# Altium footprint library AuxPDU.PcbLib: 21 footprints (part 2 of 2)
Each footprint in its own frame and in the unit in brackets; x right, y up, seen from the top. Pads: shape width x height; smd on the part's side, far side on the other; paste and mask are expansions set on the pad; w line width, h text height; cw(c..) or ccw(c..) is an arc to the next point about the centre after c.
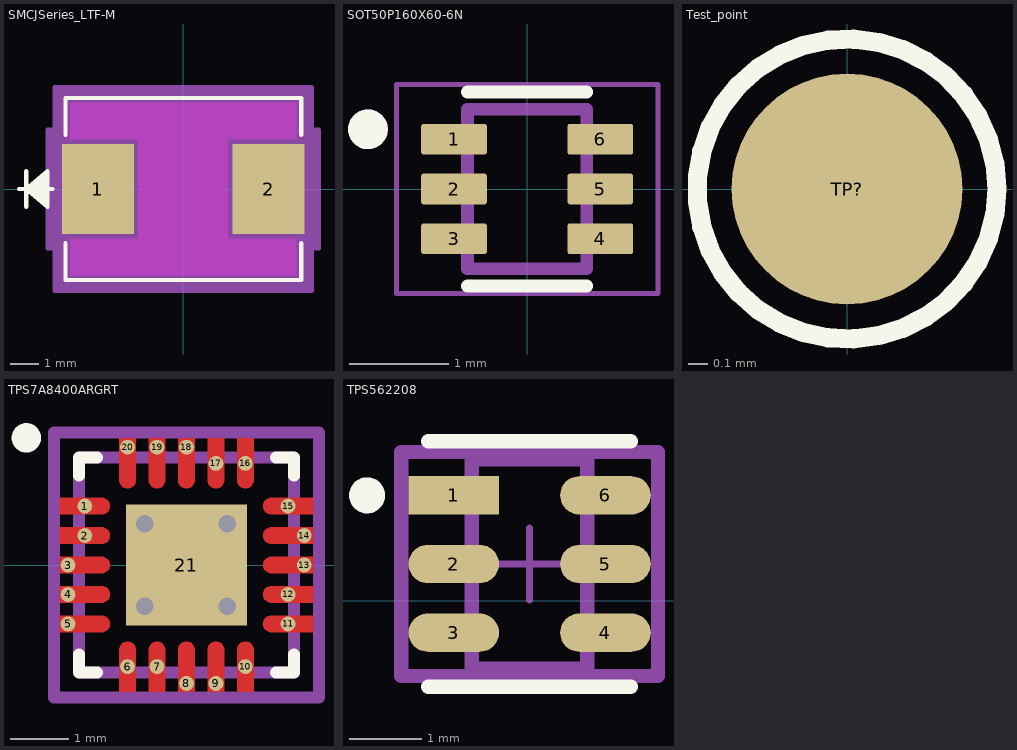
[diagram p1: the footprints below, top view; thin cyan lines are the x and y axes]

## SMCJSeries_LTF-M [mil]
pads (2):
  rect 101x126 smd paste+0 mask+0: 1(-119.5,0) 2(119.5,0)
Top Layer keep-out:
  region: -158,-120.5 -158,-69.88 158,-69.88 158,-120.5
  region: -158,69.88 -158,120.5 158,120.5 158,69.88
  region: -62.99,-69.88 -62.99,69.88 62.01,69.88 62.01,-69.88
Top Overlay:
  lines w6: -230,0 -183.1,0 ; -220,-25 -220,25 ; -190,-20 -220,0 ; -190,-15 -220,0 ; -190,-10 -220,0 ; -190,-5 -220,0 ; -190,5 -220,0 ; -190,10 -220,0 ; -190,15 -220,0 ; -190,20 -220,0 ; -165,-76.1 -165,-127.5 165,-127.5 165,-76.1 ; -165,76.1 -165,127.5 165,127.5 165,76.1 ; -220,0 -190,-25 -190,25 -220,0
  text ".Designator" at -176.5,156 h50
Keep-Out Layer:
  region: -62.99,-69.88 -62.99,69.88 62.01,69.88 62.01,-69.88
Top 3D Body:
  lines w1: -230,0 -180,0 ; -220,-25 -220,25 ; -190,-20 -220,0 ; -190,-15 -220,0 ; -190,-10 -220,0 ; -190,-5 -220,0 ; -190,5 -220,0 ; -190,10 -220,0 ; -190,15 -220,0 ; -190,20 -220,0 ; -220,0 -190,-25 -190,25 -220,0 ; -160,-122.5 -160,122.5 160,122.5 160,-122.5 -160,-122.5
  text ".Designator" at -176.5,156 h50
Top Courtyard:
  region: -180,-83 -190,-83 -190,83 -180,83 -180,142.5 180,142.5 180,83 190,83 190,-83 180,-83 180,-142.5 -180,-142.5
  lines w6: -190,-83 -180,-83 -180,-142.5 180,-142.5 180,-83 190,-83 190,83 180,83 180,142.5 -180,142.5 -180,83 -190,83 -190,-83
3D body "SMCJSeries_LTF.step": height 105, standoff 0, extent -160,-122.52 160,122.52

## SOT50P160X60-6N [mm]
height 0.6
pads (6):
  rrect16% 0.66x0.31 smd: 1(-0.735,0.5) 2(-0.735,0) 3(-0.735,-0.5) 4(0.735,-0.5) 5(0.735,0) 6(0.735,0.5)
Top Overlay:
  circle w0.2: c-1.6,0.6 r0.1
  lines w0.127: -0.6,-0.975 0.6,-0.975 ; -0.6,0.975 0.6,0.975
Top 3D Body:
  circle w0.2: c-1.6,0.6 r0.1
  lines w0.127: -0.6,-0.8 0.6,-0.8 0.6,0.8 -0.6,0.8 -0.6,-0.8
Top Courtyard:
  lines w0.05: -1.315,-1.05 1.315,-1.05 1.315,1.05 -1.315,1.05 -1.315,-1.05
3D body "step_temp.STEP": height 0.6, standoff 0, extent -0.8,-0.8 0.8,0.8

## Test_point [mm] "Reference point"
height 0.03
pads (1):
  round 1.2 smd paste-0.6: TP?(0,0)
Top Overlay:
  circle w0.1: c0,0 r0.78
3D body: height 0.03, standoff 0, extent -0.6,-0.6 0.6,0.6

## TPS7A8400ARGRT [mm] "Linear Voltage Regulator IC Positive Adjustable/Programmable 1 Output 3A"
pads (21):
  round 0.252 smd paste-1000 mask+0: 1(2.085,1) 2(2.085,0.5) 3(1.8,0) 4(1.8,-0.5) 5(1.8,-1) 6(2.81,-1.725) 7(3.31,-1.725) 8(3.81,-2.01) 9(4.31,-2.01) 10(4.81,-1.725) 11(5.535,-1) 12(5.535,-0.5) 13(5.81,0) 14(5.81,0.5) 15(5.535,1) 16(4.81,1.725) 17(4.31,1.725) 18(3.81,2) 19(3.31,2) 20(2.81,2)
  rect 2.05x2.05 smd paste-1000 mask+0: 21(3.81,0)
via 3.1,-0.7 diameter 0.6 hole 0.3
via 4.5,-0.7 diameter 0.6 hole 0.3
via 3.1,0.7 diameter 0.6 hole 0.3
via 4.5,0.7 diameter 0.6 hole 0.3
Top Layer:
  region: 1.66,1.14 2.37,1.14 2.398,1.14 2.449,1.119 2.489,1.079 2.51,1.028 2.51,1 2.51,0.972 2.489,0.921 2.449,0.881 2.398,0.86 2.37,0.86 1.66,0.86
  region: 1.66,0.64 2.37,0.64 2.398,0.64 2.449,0.619 2.489,0.579 2.51,0.528 2.51,0.5 2.51,0.472 2.489,0.421 2.449,0.381 2.398,0.36 2.37,0.36 1.66,0.36
  region: 1.66,0.14 2.37,0.14 2.398,0.14 2.449,0.119 2.489,0.079 2.51,0.028 2.51,0 2.51,-0.028 2.489,-0.079 2.449,-0.119 2.398,-0.14 2.37,-0.14 1.66,-0.14
  region: 1.66,-0.36 2.37,-0.36 2.398,-0.36 2.449,-0.381 2.489,-0.421 2.51,-0.472 2.51,-0.5 2.51,-0.528 2.489,-0.579 2.449,-0.619 2.398,-0.64 2.37,-0.64 1.66,-0.64
  region: 1.66,-0.86 2.37,-0.86 2.398,-0.86 2.449,-0.881 2.489,-0.921 2.51,-0.972 2.51,-1 2.51,-1.028 2.489,-1.079 2.449,-1.119 2.398,-1.14 2.37,-1.14 1.66,-1.14
  region: 2.67,-2.15 2.67,-1.44 2.67,-1.412 2.691,-1.361 2.731,-1.321 2.782,-1.3 2.81,-1.3 2.838,-1.3 2.889,-1.321 2.929,-1.361 2.95,-1.412 2.95,-1.44 2.95,-2.15
  region: 3.17,-2.15 3.17,-1.44 3.17,-1.412 3.191,-1.361 3.231,-1.321 3.282,-1.3 3.31,-1.3 3.338,-1.3 3.389,-1.321 3.429,-1.361 3.45,-1.412 3.45,-1.44 3.45,-2.15
  region: 3.67,-2.15 3.67,-1.44 3.67,-1.412 3.691,-1.361 3.731,-1.321 3.782,-1.3 3.81,-1.3 3.838,-1.3 3.889,-1.321 3.929,-1.361 3.95,-1.412 3.95,-1.44 3.95,-2.15
  region: 4.17,-2.15 4.17,-1.44 4.17,-1.412 4.191,-1.361 4.231,-1.321 4.282,-1.3 4.31,-1.3 4.338,-1.3 4.389,-1.321 4.429,-1.361 4.45,-1.412 4.45,-1.44 4.45,-2.15
  region: 4.67,-2.15 4.67,-1.44 4.67,-1.412 4.691,-1.361 4.731,-1.321 4.782,-1.3 4.81,-1.3 4.838,-1.3 4.889,-1.321 4.929,-1.361 4.95,-1.412 4.95,-1.44 4.95,-2.15
  region: 5.96,-1.14 5.25,-1.14 5.222,-1.14 5.171,-1.119 5.131,-1.079 5.11,-1.028 5.11,-1 5.11,-0.972 5.131,-0.921 5.171,-0.881 5.222,-0.86 5.25,-0.86 5.96,-0.86
  region: 5.96,-0.64 5.25,-0.64 5.222,-0.64 5.171,-0.619 5.131,-0.579 5.11,-0.528 5.11,-0.5 5.11,-0.472 5.131,-0.421 5.171,-0.381 5.222,-0.36 5.25,-0.36 5.96,-0.36
  region: 5.96,-0.14 5.25,-0.14 5.222,-0.14 5.171,-0.119 5.131,-0.079 5.11,-0.028 5.11,0 5.11,0.028 5.131,0.079 5.171,0.119 5.222,0.14 5.25,0.14 5.96,0.14
  region: 5.96,0.36 5.25,0.36 5.222,0.36 5.171,0.381 5.131,0.421 5.11,0.472 5.11,0.5 5.11,0.528 5.131,0.579 5.171,0.619 5.222,0.64 5.25,0.64 5.96,0.64
  region: 5.96,0.86 5.25,0.86 5.222,0.86 5.171,0.881 5.131,0.921 5.11,0.972 5.11,1 5.11,1.028 5.131,1.079 5.171,1.119 5.222,1.14 5.25,1.14 5.96,1.14
  region: 4.95,2.15 4.95,1.44 4.95,1.412 4.929,1.361 4.889,1.321 4.838,1.3 4.81,1.3 4.782,1.3 4.731,1.321 4.691,1.361 4.67,1.412 4.67,1.44 4.67,2.15
  region: 4.45,2.15 4.45,1.44 4.45,1.412 4.429,1.361 4.389,1.321 4.338,1.3 4.31,1.3 4.282,1.3 4.231,1.321 4.191,1.361 4.17,1.412 4.17,1.44 4.17,2.15
  region: 3.95,2.15 3.95,1.44 3.95,1.412 3.929,1.361 3.889,1.321 3.838,1.3 3.81,1.3 3.782,1.3 3.731,1.321 3.691,1.361 3.67,1.412 3.67,1.44 3.67,2.15
  region: 3.45,2.15 3.45,1.44 3.45,1.412 3.429,1.361 3.389,1.321 3.338,1.3 3.31,1.3 3.282,1.3 3.231,1.321 3.191,1.361 3.17,1.412 3.17,1.44 3.17,2.15
  region: 2.95,2.15 2.95,1.44 2.95,1.412 2.929,1.361 2.889,1.321 2.838,1.3 2.81,1.3 2.782,1.3 2.731,1.321 2.691,1.361 2.67,1.412 2.67,1.44 2.67,2.15
Top Overlay:
  circle w0.25: c1.092,2.159 r0.125
  lines w0.2: 1.985,-1.515 1.985,-1.825 2.295,-1.825 ; 1.985,1.515 1.985,1.825 2.295,1.825 ; 5.325,-1.825 5.635,-1.825 5.635,-1.515 ; 5.325,1.825 5.635,1.825 5.635,1.515
Top Paste:
  drawing of 24 lines, arcs and shapes, not listed
Top Assembly:
  lines w0.2: 1.56,-2.25 6.06,-2.25 6.06,2.25 1.56,2.25 1.56,-2.25
  text ".Designator" at 3.81,-0.001 h1
Top 3D Body:
  lines w0.2: 1.985,-1.825 5.635,-1.825 5.635,1.825 1.985,1.825 1.985,-1.825
Top Courtyard:
  lines w0.2: 1.56,-2.25 6.06,-2.25 6.06,2.25 1.56,2.25 1.56,-2.25
Top Component Center:
  lines w0.1: 3.31,0 4.31,0 ; 3.81,-0.5 3.81,0.5
3D body "IC_Texas_Instruments_TPS7A8400ARGRT_eec.STEP": height 0.25, standoff 0, extent 1.56,-2.25 6.06,2.25

## TPS562208 [mil] "Buck Switching Regulator IC Positive Adjustable 0.768V 1 Output 2A SOT-23-6 Thin, TSOT-23-6"
pads (6):
  rect 49.39x20.95 smd paste+0 mask+0: 1(138.65,57.4)
  rrect100% 49.39x20.95 smd paste+0 mask+0: 2(138.65,20) 3(138.65,-17.4) 4(221.35,-17.4) 5(221.35,20) 6(221.35,57.4)
Top Overlay:
  circle w9.84: c91.42,57.4 r4.92
  lines w7.87: 124.88,-46.93 235.12,-46.93 ; 124.88,86.93 235.12,86.93
Top Assembly:
  lines w7.87: 110.02,-41.02 110.02,81.02 249.98,81.02 249.98,-41.02 110.02,-41.02
  text ".Designator" at 180,27.39 h39.37
Top 3D Body:
  lines w7.87: 148.5,-37.09 148.5,77.09 211.5,77.09 211.5,-37.09 148.5,-37.09
Top Courtyard:
  lines w7.87: 110.02,-41.02 110.02,81.02 249.98,81.02 249.98,-41.02 110.02,-41.02
Top Component Center:
  lines w3.94: 160.31,20 199.69,20 ; 180,0.32 180,39.69
3D body "IC_Texas_Instruments_TPS562201DDCT_eec.STEP": height 10, standoff 0, extent 110.02,-41.02 249.98,81.02